# Altium footprint library 1.5MM.PcbLib: 10 footprints
Each footprint in its own frame and in the unit in brackets; x right, y up, seen from the top. Pads: shape width x height; smd on the part's side, far side on the other; paste and mask are expansions set on the pad; w line width, h text height; cw(c..) or ccw(c..) is an arc to the next point about the centre after c.
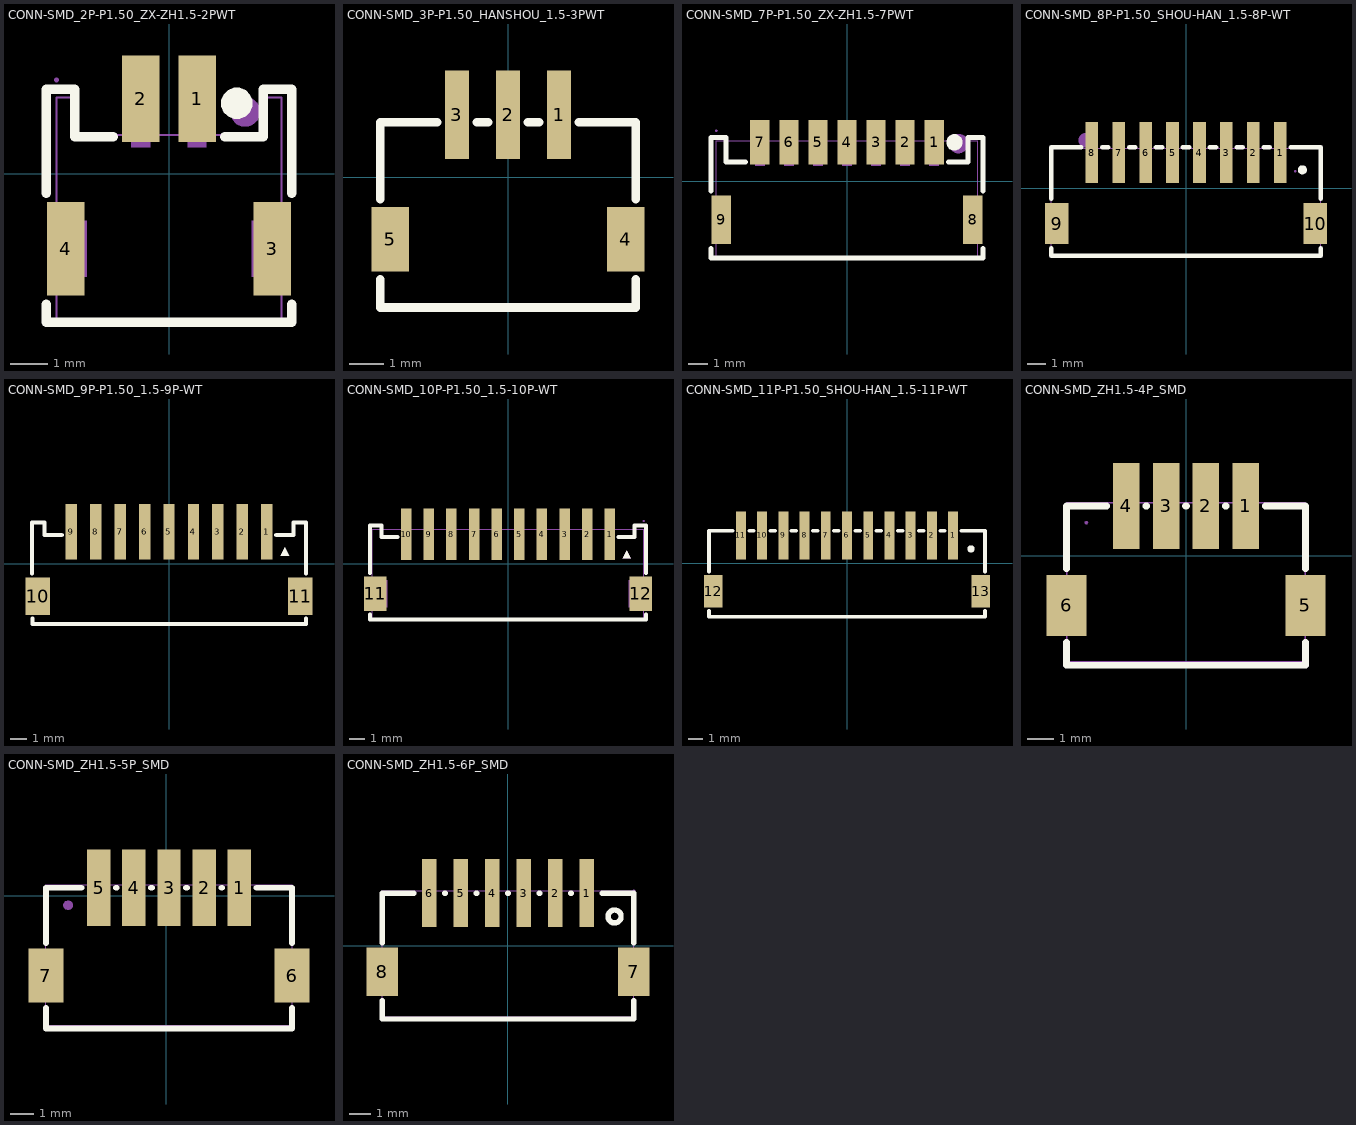
[diagram p0: the footprints below, top view; thin cyan lines are the x and y axes]

## CONN-SMD_2P-P1.50_ZX-ZH1.5-2PWT [mm]
pads (4):
  rect 1x2.3 smd paste+0 mask+0.05: 1(0.75,2) 2(-0.75,2)
  rect 1x2.5 smd paste+0 mask+0.05: 3(2.75,-2) 4(-2.75,-2)
Top Overlay:
  region: 1.398,1.873 1.398,1.955 1.461,2.106 1.576,2.221 1.727,2.284 1.891,2.284 2.042,2.221 2.157,2.106 2.22,1.955 2.22,1.873 2.22,1.791 2.157,1.64 2.042,1.525 1.891,1.462 1.727,1.462 1.576,1.525 1.461,1.64 1.398,1.791 1.398,1.873
  lines w0.254: -3.271,-3.48 -3.271,-3.969 3.27,-3.969 ; -3.271,-0.52 -3.271,2.254 -2.509,2.254 -2.509,0.984 -1.481,0.984 ; 1.481,0.984 2.509,0.984 2.509,2.254 3.271,2.254 3.271,-0.52 ; 3.271,-3.969 3.271,-3.48
Mechanical 6:
  circle w0.4: c2.032,1.651 r0.2
Mechanical 15:
  region: -2.94,2.5 -2.94,2.525 -2.975,2.56 -3.025,2.56 -3.06,2.525 -3.06,2.5 -3.06,2.475 -3.025,2.44 -2.975,2.44 -2.94,2.475 -2.94,2.5
  region: 2.2,-1.25 3,-1.25 3,-2.75 2.2,-2.75
  region: -3,-1.25 -2.2,-1.25 -2.2,-2.75 -3,-2.75
  region: 1,0.7 0.5,0.7 0.5,2.5 1,2.5
  region: -0.5,0.7 -1,0.7 -1,2.5 -0.5,2.5
  lines w0.051: -3,-3.969 -3,2.031 -2.5,2.031 -2.5,1.031 2.5,1.031 2.5,2.031 3,2.031 3,-3.969 -3,-3.969

## CONN-SMD_3P-P1.50_HANSHOU_1.5-3PWT [mm]
pads (5):
  rect 0.7x2.6 smd: 1(1.5,1.825) 2(0,1.825) 3(-1.5,1.825)
  rect 1.1x1.9 smd: 4(3.45,-1.825) 5(-3.45,-1.825)
Top Overlay:
  lines w0.254: -3.75,-3.006 -3.75,-3.825 3.75,-3.825 3.75,-3.006 ; -3.75,-0.644 -3.75,1.604 -2.081,1.604 ; -0.919,1.604 -0.581,1.604 ; 0.581,1.604 0.919,1.604 ; 2.081,1.604 3.75,1.604 3.75,-0.644

## CONN-SMD_7P-P1.50_ZX-ZH1.5-7PWT [mm]
pads (9):
  rect 1x2.3 smd paste+0 mask+0.05: 1(4.5,2) 2(3,2) 3(1.5,2) 4(0,2) 5(-1.5,2) 6(-3,2) 7(-4.5,2)
  rect 1x2.5 smd paste+0 mask+0.05: 8(6.5,-2) 9(-6.5,-2)
Top Overlay:
  region: 5.141,2 5.141,2.082 5.204,2.233 5.319,2.348 5.47,2.411 5.634,2.411 5.785,2.348 5.9,2.233 5.963,2.082 5.963,2 5.963,1.918 5.9,1.767 5.785,1.652 5.634,1.589 5.47,1.589 5.319,1.652 5.204,1.767 5.141,1.918 5.141,2
  lines w0.254: -7.021,-3.48 -7.021,-3.969 7.02,-3.969 7.021,-3.48 ; -7.021,-0.52 -7.021,2.254 -6.259,2.254 -6.259,0.984 -5.231,0.984 ; 5.231,0.984 6.259,0.984 6.259,2.254 7.021,2.254 7.021,-0.52
Mechanical 6:
  circle w0.5: c5.766,1.935 r0.25
Mechanical 15:
  region: -6.69,2.6 -6.691,2.624 -6.726,2.658 -6.774,2.658 -6.809,2.624 -6.81,2.6 -6.809,2.576 -6.774,2.542 -6.726,2.542 -6.691,2.576 -6.69,2.6
  region: -6.75,-1.25 -6.25,-1.25 -6.25,-2.75 -6.75,-2.75
  region: 6.25,-1.25 6.75,-1.25 6.75,-2.75 6.25,-2.75
  region: 4.25,2.6 4.75,2.6 4.75,0.8 4.25,0.8
  region: 2.75,2.6 3.25,2.6 3.25,0.8 2.75,0.8
  region: 1.25,2.6 1.75,2.6 1.75,0.8 1.25,0.8
  region: -0.25,2.6 0.25,2.6 0.25,0.8 -0.25,0.8
  region: -1.75,2.6 -1.25,2.6 -1.25,0.8 -1.75,0.8
  region: -3.25,2.6 -2.75,2.6 -2.75,0.8 -3.25,0.8
  region: -4.75,2.6 -4.25,2.6 -4.25,0.8 -4.75,0.8
  lines w0.051: -6.75,-3.92 6.75,-3.92 6.75,2.08 -6.75,2.08 -6.75,-3.92

## CONN-SMD_8P-P1.50_SHOU-HAN_1.5-8P-WT [mm]
pads (10):
  rect 0.7x3.4 smd paste+0 mask+0.05: 1(5.25,1.975) 2(3.75,1.975) 3(2.25,1.975) 4(0.75,1.975) 5(-0.75,1.975) 6(-2.25,1.975) 7(-3.75,1.975) 8(-5.25,1.975)
  rect 1.3x2.3 smd paste+0 mask+0.05: 9(-7.2,-1.975) 10(7.2,-1.975)
Top Overlay:
  circle w0.254: c6.477,1.016 r0.127
  lines w0.254: -7.5,-3.356 -7.5,-3.775 7.5,-3.775 7.5,-3.356 ; -7.5,-0.594 -7.5,2.286 -5.831,2.286 ; -4.669,2.286 -4.331,2.286 ; -3.169,2.286 -2.831,2.286 ; -1.669,2.286 -1.331,2.286 ; -0.169,2.286 0.169,2.286 ; 1.331,2.286 1.669,2.286 ; 2.831,2.286 3.169,2.286 ; 4.331,2.286 4.669,2.286 ; 5.831,2.286 7.5,2.286 7.5,-0.594
Mechanical 6:
  circle w0.4: c-5.588,2.667 r0.2
Mechanical 15:
  region: 6.149,0.947 6.149,0.972 6.114,1.006 6.064,1.006 6.029,0.972 6.029,0.947 6.029,0.923 6.064,0.888 6.114,0.888 6.149,0.922 6.149,0.947
  region: 5.5,2.725 5,2.725 5,1.225 5.5,1.225
  region: 4,2.725 3.5,2.725 3.5,1.225 4,1.225
  region: 2.5,2.725 2,2.725 2,1.225 2.5,1.225
  region: 1,2.725 0.5,2.725 0.5,1.225 1,1.225
  region: -0.5,2.725 -1,2.725 -1,1.225 -0.5,1.225
  region: -2,2.725 -2.5,2.725 -2.5,1.225 -2,1.225
  region: -3.5,2.725 -4,2.725 -4,1.225 -3.5,1.225
  region: -5,2.725 -5.5,2.725 -5.5,1.225 -5,1.225
  region: -7.5,-1.225 -6.7,-1.225 -6.7,-2.725 -7.5,-2.725
  region: 6.7,-1.225 7.5,-1.225 7.5,-2.725 6.7,-2.725
  lines w0.051: -7.5,-3.775 -7.5,2.225 7.5,2.225 7.5,-3.775 -7.5,-3.775

## CONN-SMD_9P-P1.50_1.5-9P-WT [mm]
pads (11):
  rect 0.7x3.4 smd paste+0 mask+0.05: 1(6,1.975) 2(4.5,1.975) 3(3,1.975) 4(1.5,1.975) 5(0,1.975) 6(-1.5,1.975) 7(-3,1.975) 8(-4.5,1.975) 9(-6,1.975)
  rect 1.5x2.3 smd paste+0 mask+0.05: 10(-8.05,-1.975) 11(8.05,-1.975)
Top Overlay:
  region: 7.112,1.016 6.858,0.508 7.366,0.508
  lines w0.254: -8.394,-0.594 -8.394,2.54 -7.632,2.54 -7.632,1.778 -6.581,1.778 ; -8.382,-3.356 -8.382,-3.683 8.394,-3.683 8.394,-3.356 ; 6.581,1.778 7.632,1.778 7.632,2.54 8.394,2.54 8.394,-0.594

## CONN-SMD_10P-P1.50_1.5-10P-WT [mm]
pads (12):
  rect 0.7x3.4 smd paste+0 mask+0.05: 1(6.75,1.975) 2(5.25,1.975) 3(3.75,1.975) 4(2.25,1.975) 5(0.75,1.975) 6(-0.75,1.975) 7(-2.25,1.975) 8(-3.75,1.975) 9(-5.25,1.975) 10(-6.75,1.975)
  rect 1.5x2.3 smd paste+0 mask+0.05: 11(-8.8,-1.975) 12(8.8,-1.975)
Top Overlay:
  region: 7.874,0.889 7.62,0.381 8.128,0.381
  lines w0.254: -9.144,-3.356 -9.144,-3.683 9.144,-3.683 9.144,-3.356 ; -9.144,-0.594 -9.144,2.54 -8.382,2.54 -8.382,1.778 -7.331,1.778 ; 7.331,1.778 8.382,1.778 8.382,2.54 9.144,2.54 9.144,-0.594
Mechanical 6:
  region: 7.874,0.889 7.62,0.381 8.128,0.381
Mechanical 15:
  region: 9.06,2.852 9.059,2.876 9.024,2.91 8.976,2.91 8.941,2.876 8.94,2.852 8.941,2.828 8.976,2.794 9.024,2.794 9.059,2.828 9.06,2.852
  region: -7,2.852 -6.5,2.852 -6.5,0.352 -7,0.352
  region: -5.5,2.852 -5,2.852 -5,0.352 -5.5,0.352
  region: -4,2.852 -3.5,2.852 -3.5,0.352 -4,0.352
  region: -2.5,2.852 -2,2.852 -2,0.352 -2.5,0.352
  region: -1,2.852 -0.5,2.852 -0.5,0.352 -1,0.352
  region: 0.5,2.852 1,2.852 1,0.352 0.5,0.352
  region: 2,2.852 2.5,2.852 2.5,0.352 2,0.352
  region: 3.5,2.852 4,2.852 4,0.352 3.5,0.352
  region: 5,2.852 5.5,2.852 5.5,0.352 5,0.352
  region: 6.5,2.852 7,2.852 7,0.352 6.5,0.352
  region: 8,-1.075 9,-1.075 9,-2.875 8,-2.875
  region: -9,-1.075 -8,-1.075 -8,-2.875 -9,-2.875
  lines w0.051: -9,-3.683 -9,2.317 9,2.317 9,-3.683 -9,-3.683

## CONN-SMD_11P-P1.50_SHOU-HAN_1.5-11P-WT [mm]
pads (13):
  rect 0.7x3.4 smd paste+0 mask+0.05: 1(7.5,1.975) 2(6,1.975) 3(4.5,1.975) 4(3,1.975) 5(1.5,1.975) 6(0,1.975) 7(-1.5,1.975) 8(-3,1.975) 9(-4.5,1.975) 10(-6,1.975) 11(-7.5,1.975)
  rect 1.3x2.3 smd paste+0 mask+0.05: 12(-9.45,-1.975) 13(9.45,-1.975)
Top Overlay:
  lines w0.254: -9.75,-3.356 -9.75,-3.775 9.75,-3.775 9.75,-3.356 ; -9.75,-0.594 -9.75,2.286 -8.081,2.286 ; -6.919,2.286 -6.581,2.286 ; -5.419,2.286 -5.081,2.286 ; -3.919,2.286 -3.581,2.286 ; -2.419,2.286 -2.081,2.286 ; -0.919,2.286 -0.581,2.286 ; 0.581,2.286 0.919,2.286 ; 2.081,2.286 2.419,2.286 ; 3.581,2.286 3.919,2.286 ; 5.081,2.286 5.419,2.286 ; 6.581,2.286 6.919,2.286 ; 8.081,2.286 9.75,2.286 9.75,-0.594 ; 8.883,1.056 ccw(c8.763,1.016) 8.89,1.016

## CONN-SMD_ZH1.5-4P_SMD [mm]
pads (6):
  rect 1x3.25 smd: 1(2.25,1.875) 2(0.75,1.875) 3(-0.75,1.875) 4(-2.25,1.875)
  rect 1.5x2.3 smd: 5(4.5,-1.875) 6(-4.5,-1.875)
Top Overlay:
  lines w0.254: -4.5,-3.256 -4.5,-4.125 4.5,-4.125 4.5,-3.256 ; -4.5,-0.494 -4.5,1.875 -2.981,1.875 ; -1.519,1.875 -1.481,1.875 ; -0.019,1.875 0.019,1.875 ; 1.481,1.875 1.519,1.875 ; 2.981,1.875 4.5,1.875 4.5,-0.494
Mechanical 15:
  region: -3.691,1.246 -3.692,1.27 -3.727,1.304 -3.775,1.304 -3.81,1.27 -3.811,1.246 -3.81,1.221 -3.775,1.188 -3.727,1.188 -3.692,1.221 -3.691,1.246
  region: -2,1.003 -2.5,1.003 -2.5,2.503 -2,2.503
  region: -0.5,1.003 -1,1.003 -1,2.503 -0.5,2.503
  region: 1,1.003 0.5,1.003 0.5,2.503 1,2.503
  region: 2.5,1.003 2,1.003 2,2.503 2.5,2.503
  region: -4.01,-1.21 -4.01,-2.79 -4.429,-2.79 -4.45,-2.78 -4.49,-2.74 -4.5,-2.72 -4.5,-1.281 -4.49,-1.259 -4.451,-1.22 -4.431,-1.211 -4.01,-1.21
  region: 4.008,-1.211 4.008,-2.791 4.427,-2.791 4.448,-2.781 4.487,-2.741 4.498,-2.721 4.498,-1.282 4.488,-1.26 4.448,-1.221 4.429,-1.211 4.008,-1.211
  lines w0.051: -4.5,-3.998 -4.5,2.001 4.5,2.001 4.5,-3.998 -4.5,-3.998

## CONN-SMD_ZH1.5-5P_SMD [mm]
pads (7):
  rect 1x3.25 smd: 1(3.127,0.351) 2(1.627,0.351) 3(0.127,0.35) 4(-1.373,0.351) 5(-2.873,0.351)
  rect 1.5x2.3 smd: 6(5.377,-3.399) 7(-5.124,-3.399)
Top Overlay:
  lines w0.254: -5.123,-4.78 -5.123,-5.649 5.378,-5.649 5.378,-4.78 ; -5.123,-2.017 -5.123,0.35 -3.603,0.35 ; -2.14,0.35 -2.103,0.35 ; -0.64,0.35 -0.605,0.35 ; 0.858,0.35 0.896,0.35 ; 2.358,0.35 2.396,0.35 ; 3.858,0.35 5.378,0.35 5.378,-2.017
Mechanical 15:
  region: -4.378,-0.393 -4.377,-0.432 -4.346,-0.505 -4.29,-0.56 -4.217,-0.59 -4.138,-0.589 -4.066,-0.56 -4.01,-0.505 -3.979,-0.432 -3.978,-0.393 -3.979,-0.354 -4.01,-0.281 -4.066,-0.226 -4.139,-0.197 -4.217,-0.197 -4.29,-0.226 -4.346,-0.282 -4.377,-0.354 -4.378,-0.393
  region: 3.377,-1.274 2.877,-1.274 2.877,0.976 3.377,0.976
  region: 1.877,-1.274 1.377,-1.274 1.377,0.976 1.877,0.976
  region: 0.377,-1.275 -0.123,-1.275 -0.123,0.975 0.377,0.975
  region: -1.121,-1.274 -1.621,-1.274 -1.621,0.976 -1.121,0.976
  region: -2.621,-1.274 -3.121,-1.274 -3.121,0.976 -2.621,0.976
  region: -4.423,-4.249 -5.123,-4.249 -5.123,-2.549 -4.423,-2.549
  region: 5.377,-4.249 4.677,-4.249 4.677,-2.549 5.377,-2.549
  lines w0.051: -5.123,-5.524 5.377,-5.524 5.377,0.476 -5.123,0.476 -5.123,-5.524

## CONN-SMD_ZH1.5-6P_SMD [mm]
pads (8):
  rect 0.7x3.25 smd: 1(3.75,2.51) 2(2.25,2.51) 3(0.75,2.51) 4(-0.75,2.51) 5(-2.25,2.51) 6(-3.75,2.51)
  rect 1.5x2.3 smd: 7(6,-1.24) 8(-6,-1.24)
Top Overlay:
  circle w0.254: c5.08,1.397 r0.309
  lines w0.254: -6,-2.621 -6,-3.49 6,-3.49 6,-2.621 ; -6,0.141 -6,2.51 -4.481,2.51 ; -3.019,2.51 -2.981,2.51 ; -1.519,2.51 -1.481,2.51 ; -0.019,2.51 0.019,2.51 ; 1.481,2.51 1.519,2.51 ; 2.981,2.51 3.019,2.51 ; 4.481,2.51 6,2.51 6,0.141
Mechanical 15:
  region: -5.25,-2.14 -6.05,-2.14 -6.05,-0.34 -5.25,-0.34
  region: 6.05,-2.14 5.25,-2.14 5.25,-0.34 6.05,-0.34
  region: -3.5,1.134 -4,1.134 -4,3.134 -3.5,3.134
  region: -2,1.134 -2.5,1.134 -2.5,3.134 -2,3.134
  region: -0.5,1.134 -1,1.134 -1,3.134 -0.5,3.134
  region: 1,1.134 0.5,1.134 0.5,3.134 1,3.134
  region: 2.5,1.134 2,1.134 2,3.134 2.5,3.134
  region: 4,1.134 3.5,1.134 3.5,3.134 4,3.134
  region: 5.94,2.615 5.941,2.591 5.976,2.557 6.024,2.557 6.059,2.591 6.06,2.615 6.059,2.639 6.024,2.674 5.976,2.673 5.941,2.639 5.94,2.615
  lines w0.051: -6,-3.385 -6,2.615 6,2.615 6,-3.385 -6,-3.385